# Altium footprint library Train2.PCBLIB: 223 footprints (part 13 of 14)
Each footprint in its own frame and in the unit in brackets; x right, y up, seen from the top. Pads: shape width x height; smd on the part's side, far side on the other; paste and mask are expansions set on the pad; w line width, h text height; cw(c..) or ccw(c..) is an arc to the next point about the centre after c.
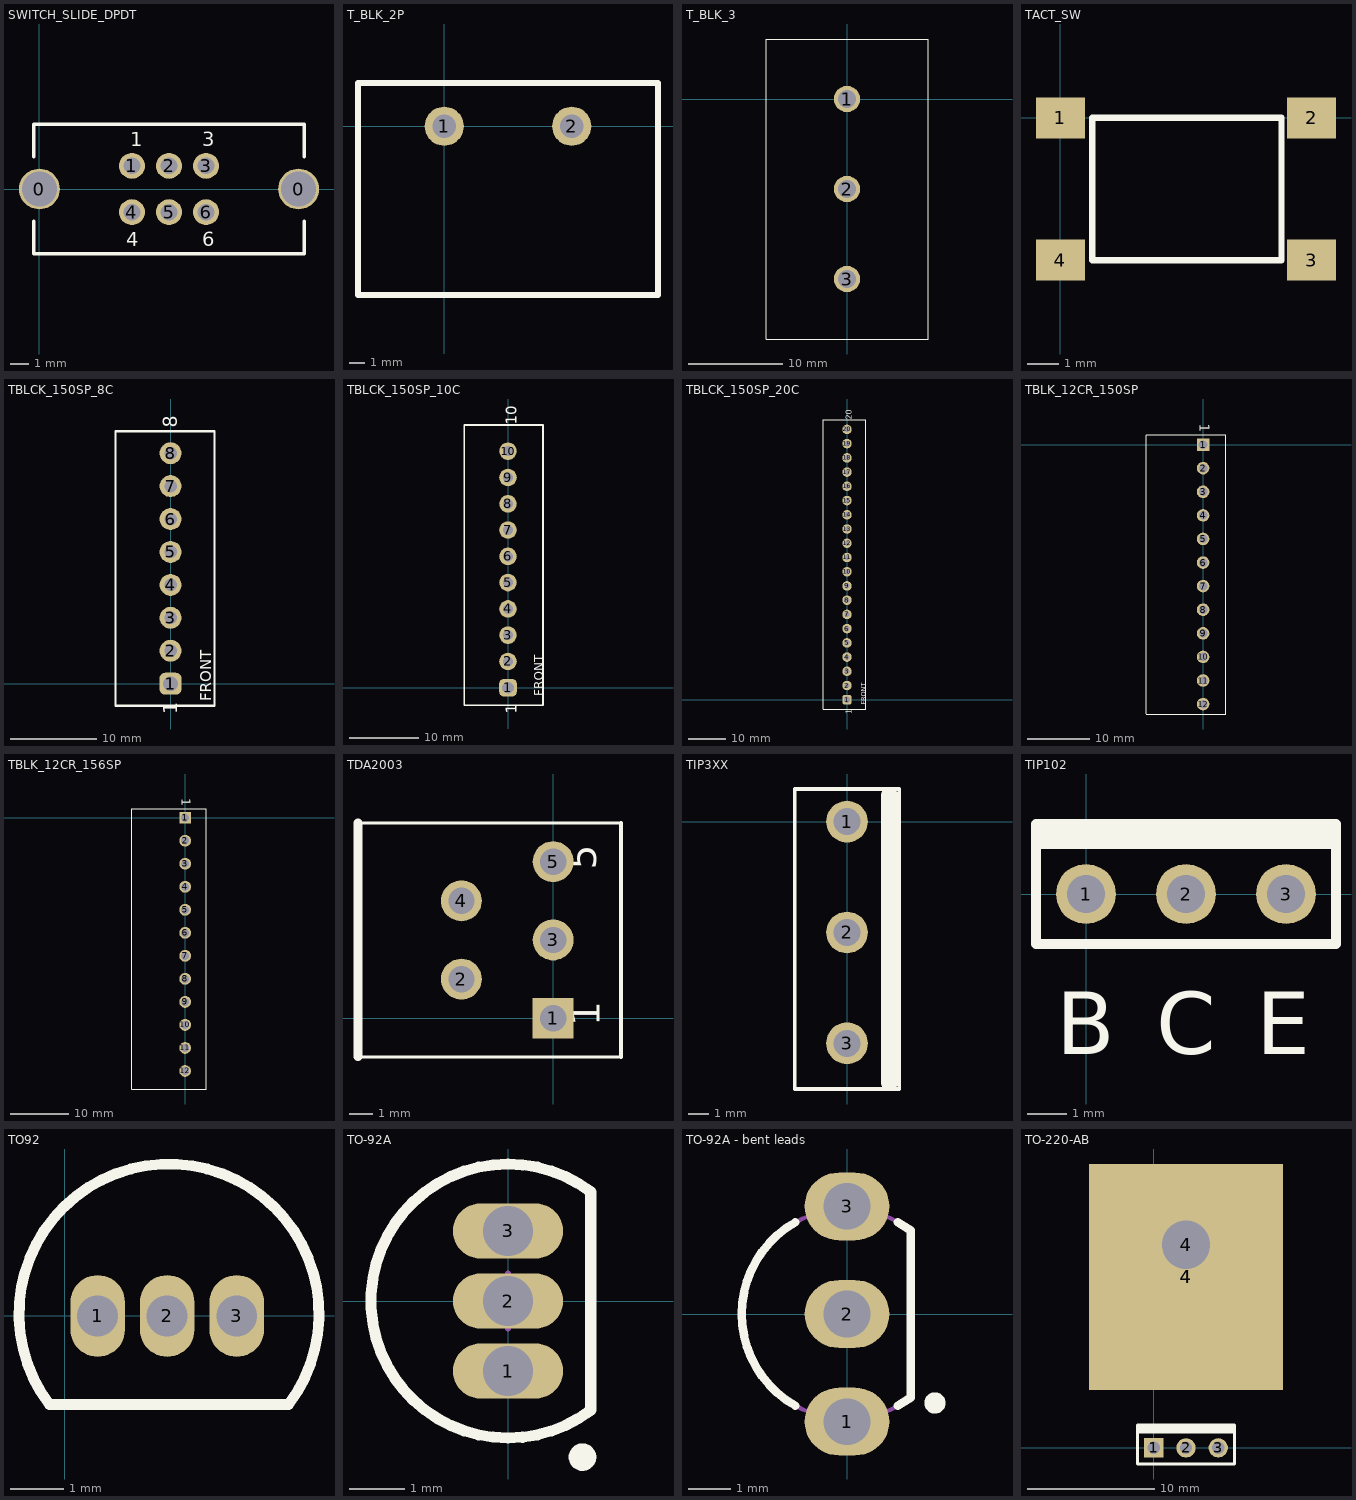
[diagram p12: the footprints below, top view; thin cyan lines are the x and y axes]

## SWITCH_SLIDE_DPDT [mm]
pads (8):
  round 2.206 hole 1.902: 0(0,0) 0(14,0)
  round 1.4 hole 0.9: 1(5,1.25) 2(7,1.25) 3(9,1.25) 4(5,-1.25) 5(7,-1.25) 6(9,-1.25)
Top Overlay:
  lines w0.203: -0.3,-1.75 -0.3,-3.5 14.3,-3.5 14.3,-1.75 ; -0.3,1.75 -0.3,3.5 14.3,3.5 14.3,1.75
  text "6" at 8.8,-3.1 h0.76
  text "3" at 8.8,2.3 h0.76
  text "4" at 4.7,-3.1 h0.76
  text "1" at 4.9,2.3 h0.76

## T_BLK_2P [mil]
height 530
pads (2):
  round 100 hole 60: 1(0,0) 2(325,0)
Top Overlay:
  lines w15: -220,-430 -150,-430 545,-430 545,110 -220,110 -220,-430

## T_BLK_3 [mil]
pads (3):
  round 110 hole 73: 1(0,0) 2(0,-375) 3(0,-750)
Top Overlay:
  lines w5: -337.5,-1000 -337.5,250 337.5,250 337.5,-1000 -337.5,-1000
  text ".375_space" at 275,-300 h30

## TACT_SW [mm]
pads (4):
  rect 1.55x1.3 smd: 1(0,0) 2(7.95,0) 3(7.95,-4.5) 4(0,-4.5)
Top Overlay:
  lines w0.203: 1,-4.5 1,0 7,0 7,-4.5 1,-4.5

## TBLCK_150SP_8C [mil]
pads (8):
  rrect50% 100x100 hole 67: 1(0,0)
  round 100 hole 57: 2(0,150) 3(0,300) 4(0,450) 5(0,600) 6(0,750) 7(0,900) 8(0,1050)
Top Overlay:
  lines w10: -250,-100 -250,1150 200,1150 200,-100 -250,-100
  text "1" at 30,-138 h62.5
  text "8" at 30,1166 h62.5
  text "FRONT" at 186,-80 h50

## TBLCK_150SP_10C [mil]
pads (10):
  rrect50% 100x100 hole 67: 1(0,0)
  round 100 hole 57: 2(0,150) 3(0,300) 4(0,450) 5(0,600) 6(0,750) 7(0,900) 8(0,1050) 9(0,1200) 10(0,1350)
Top Overlay:
  lines w10: -250,-100 -250,1500 200,1500 200,-100 -250,-100
  text "1" at 50,-150 h62.5
  text "10" at 50,1500 h62.5
  text "FRONT" at 200,-50 h50

## TBLCK_150SP_20C [mil]
pads (20):
  rrect50% 100x100 hole 67: 1(0,0)
  round 100 hole 57: 2(0,150) 3(0,300) 4(0,450) 5(0,600) 6(0,750) 7(0,900) 8(0,1050) 9(0,1200) 10(0,1350) 11(0,1500) 12(0,1650) 13(0,1800) 14(0,1950) 15(0,2100) 16(0,2250) 17(0,2400) 18(0,2550) 19(0,2700) 20(0,2850)
Top Overlay:
  lines w10: -250,-100 200,-100 200,2950 -250,2950 -250,-100
  text "FRONT" at 200,-50 h50
  text "20" at 50,2950 h62.5
  text "1" at 50,-150 h62.5

## TBLK_12CR_150SP [mil]
pads (12):
  rect 80x80 hole 55: 1(0,0)
  round 80 hole 54: 2(0,-150) 3(0,-300) 4(0,-450) 5(0,-600) 6(0,-750) 7(0,-900) 8(0,-1050) 9(0,-1200) 10(0,-1350) 11(0,-1500) 12(0,-1650)
Top Overlay:
  lines w5: -362,-1713 143,-1713 ; -362,62 143,62 ; -360,-1710 -360,60 ; 145,-1710 145,60
  text "1" at -22,132 h62.5

## TBLK_12CR_156SP [mil]
pads (12):
  rect 80x80 hole 55: 1(0,0)
  round 80 hole 54: 2(0,-156) 3(0,-312) 4(0,-468) 5(0,-624) 6(0,-780) 7(0,-936) 8(0,-1092) 9(0,-1248) 10(0,-1404) 11(0,-1560) 12(0,-1716)
Top Overlay:
  lines w5: -362,-1838 143,-1838 143,62 -362,62 -362,-1838
  text "1" at -22,132 h62.5

## TDA2003 [mil]
pads (5):
  rect 70x70 hole 45: 1(0,0)
  round 70 hole 45: 2(-157,67) 3(0,134) 4(-157,201) 5(0,268)
Top Overlay:
  lines w5: -334,-66 116,-66 ; -334,334 116,334
  lines w7: 116,-66 116,334
  lines w15: -334,-66 -334,334
  text "5" at 90,254 h83.33
  text "1" at 96,-14 h83.33

## TIP3XX [mil]
pads (3):
  round 80 hole 52: 1(0,0) 2(0,-212.5) 3(0,-425)
Top Overlay:
  lines w7: -100,-512.5 -100,62.5 100,62.5 100,-512.5 -100,-512.5
  lines w20: 90,-500 90,50
  lines w30: 80,-500 80,50

## TIP102 [mil]
pads (3):
  round 60 hole 38: 1(0,0) 2(100,0) 3(200,0)
Top Overlay:
  lines w10: -50,50 250,50 ; -50,60 250,60 ; -50,-50 -50,70 250,70 250,-50 -50,-50
  text "B" at -30,-160 h62.5
  text "E" at 170,-160 h62.5
  text "C" at 70,-160 h62.5

## TO92 [mil]
pads (3):
  oval 40x60 hole 30: 1(24,0) 2(75,0) 3(126,0)
Top Overlay:
  lines w7.87: -11.36,-65 cw(c76.32,1.42) 164,-65 -11.36,-65
3D body "TO-92A.STEP": height 244.96, standoff -188.11, extent -19.48,-60.23 169.49,94.49

## TO-92A [mm] "TO, Flat Index; 3 In-Line, Axial Leads; Body Dia. 4.5mm; Leads 0.51 x 0.48 mm (max)"
height 6.86
pads (3):
  oval 2x1 hole 0.9: 1(0,-1.27) 2(0,0) 3(0,1.27)
Top Overlay:
  circle w0.25: c1.35,-2.83 r0.125
  lines w0.2: 1.5,-1.98 cw(c0,0) 1.5,1.98 1.5,-1.98
Mechanical 13:
  lines w0.1: 1.5,-1.98 cw(c0,0) 1.5,1.98 1.5,-1.98
Mechanical 15:
  lines w0.1: -0.5,0 0.5,0 ; 0,-0.5 0,0.5
3D body "TO-92A.STEP": height 8, standoff -3, extent -2.375,-2.4 1.555,2.4

## TO-92A - bent leads [mm] "TO, Flat Index; 3 In-Line, Axial Leads; Body Dia. 4.5mm; Leads 0.51 x 0.48 mm (max)"
height 6.86
pads (3):
  oval 2x1.6 hole 1.1: 1(0,-2.54) 2(0,0) 3(0,2.54)
Top Overlay:
  circle w0.25: c2.075,-2.1 r0.125
  lines w0.2: -1.222,-2.162 cw(c0,0) -1.222,2.162 ; 1.2,-2.162 1.5,-1.98 1.5,1.98 1.2,2.162
Mechanical 13:
  lines w0.1: 1.5,-1.98 cw(c0,0) 1.5,1.98 1.5,-1.98
Mechanical 15:
  lines w0.1: -0.5,0 0.5,0 ; 0,-0.5 0,0.5
3D body "TO-92A.STEP": height 8, standoff -3, extent -2.375,-2.4 1.555,2.4

## TO-220-AB [mil] "TO, Thru-Hole, Vertical, Heatsink Mounted; 3 In-Line Leads; Pitch 2.54 mm"
height 751.97
pads (6):
  rect 60x60 hole 38: 1(0,0)
  round 60 hole 38: 2(100,0) 3(200,0)
  rect 600x700 smd: 4(100,530)
  rect 600x700 smd far side: 4(100,530)
  round 150 hole 150 paste+0 mask+0: 4(100,630)
Top Overlay:
  lines w10: -50,50 250,50 ; -50,60 250,60 ; -50,-50 250,-50 250,70 -50,70 -50,-50
3D body "TO-220_rightAngle.step": height 165.35, standoff -118.11, extent -98.11,-10 301.89,757.32